# Altium schematic symbol library Telma_SimBox_T0_00.SCHLIB: 24 symbols
Pins are listed as number, name and electrical type; pins without a type are passive.

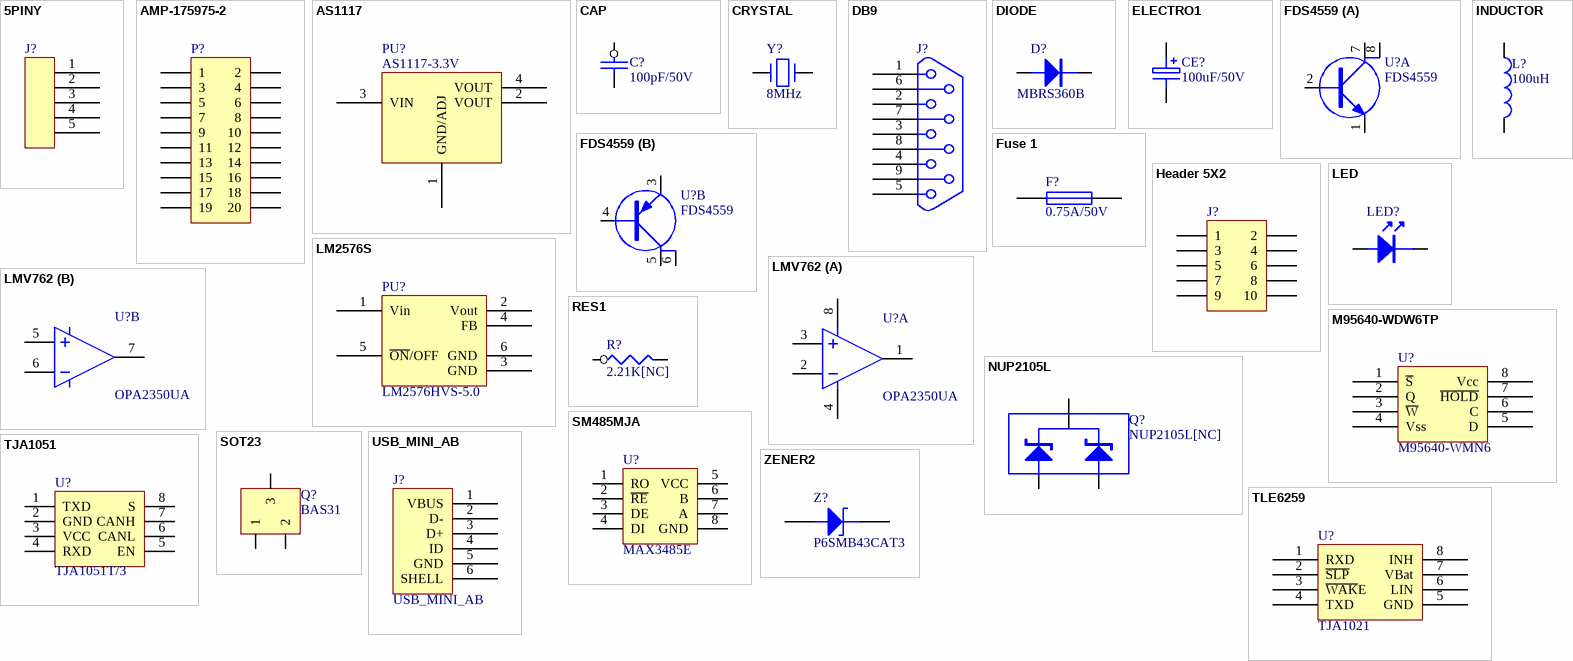
[diagram p0: symbols 5PINY to ZENER2]

## 5PINY
designator J?
footprint SIP5X
pins: 1, 2, 3, 4, 5

## AMP-175975-2
designator P?
Header, 10-Pin, Dual row; LatestRevisionDate: 17-Jul-2002; LatestRevisionNote: Re-released for DXP Platform.; Publisher: Altium Limited
footprint AMP-175975-2
pins: 1, 2, 3, 4, 5, 6, 7, 8, 9, 10, 11, 12, 13, 14, 15, 16, 17, 18, 19, 20

## AS1117
designator PU?, comment AS1117-3.3V
footprint SOT-223
pins: 1 GND/ADJ, 2 VOUT, 3 VIN, 4 VOUT

## CAP
designator C?, comment 100pF/50V
footprint 0805C
pins: 1, 2
2 alternate drawings of the same symbol

## CRYSTAL
designator Y?, comment 8MHz
footprint CRYSTAL
pins: 1, 2

## DB9
designator J?
footprint DB9
footprint DB9SLE (Footprint not found)
pins: 1, 2, 3, 4, 5, 6, 7, 8, 9

## DIODE
designator D?, comment MBRS360B
pins: A, K

## ELECTRO1
designator CE?, comment 100uF/50V
footprint SMD-EC-F8.0
pins: 1, 2

## FDS4559
designator U?
footprint SOP-8
part A pins: 1, 2, 7, 8
part B pins: 3, 4, 5, 6

## Fuse 1
designator F?, comment 0.75A/50V
Fuse; Published: 8-Jun-2000; LatestRevisionDate: 17-Jul-2002; LatestRevisionNote: Re-released for DXP Platform.; PackageReference: PIN-W2/E2.8; Publisher: Altium Limited; PackageDescription: Thru-Hole; 2 Leads
footprint 1206R
pins: 1, 2

## Header 5X2
designator J?
Header, 10-Pin, Dual row; LatestRevisionDate: 17-Jul-2002; LatestRevisionNote: Re-released for DXP Platform.; Publisher: Altium Limited
footprint HDR2X5 (Connector; Header; 8x2 Position)
pins: 1, 2, 3, 4, 5, 6, 7, 8, 9, 10

## INDUCTOR
designator L?, comment 100uH
footprint L10*10 (Footprint not found)
pins: 1, 2

## LED
designator LED?
footprint 1206LED (Footprint not found)
pins: A, K

## LM2576S
designator PU?, comment LM2576HVS-5.0
footprint P-TO263-5-1
pins: 1 Vin, 2 Vout, 3 GND, 4 FB, 5 ~{ON}/OFF, 6 GND

## LMV762
designator U?, comment OPA2350UA
footprint SOP-8
part A pins: 1, 2, 3, 4, 8
part B pins: 5, 6, 7

## M95640-WDW6TP
designator U?, comment M95640-WMN6
footprint SOP-8
pins: 1 ~{S}, 2 Q, 3 ~{W}, 4 Vss, 5 D, 6 C, 7 ~{HOLD}, 8 Vcc

## NUP2105L
designator Q?, comment NUP2105L[NC]
footprint SOT23
footprint SOT-23
pins: 1, 2, 3

## RES1
designator R?, comment 2.21K[NC]
footprint 0805R
pins: 1, 2
2 alternate drawings of the same symbol

## SM485MJA
designator U?, comment MAX3485E
footprint SM485MJA (DIP, 8-Leads, Row Spacing 7.62mm, Pitch 2.54mm, Body 9.91x6.73mm)
footprint SOP-8
pins: 1 RO, 2 ~{RE}, 3 DE, 4 DI, 5 VCC, 6 B, 7 A, 8 GND

## SOT23
designator Q?, comment BAS31
footprint SOT-23
pins: 1, 2, 3
2 alternate drawings of the same symbol

## TJA1051
designator U?, comment TJA1051T/3
footprint SO-8
footprint SOP-8
pins: 1 TXD, 2 GND, 3 VCC, 4 RXD, 5 EN, 6 CANL, 7 CANH, 8 S

## TLE6259
designator U?, comment TJA1021
footprint SOP-8
pins: 1 RXD, 2 ~{SLP}, 3 ~{WAK}E, 4 TXD, 5 GND, 6 LIN, 7 VBat, 8 INH

## USB_MINI_AB
designator J?
footprint USB_MINI
pins: 1 VBUS (power), 2 D-, 3 D+, 4 ID (power), 5 GND, 6 SHELL
2 alternate drawings of the same symbol

## ZENER2
designator Z?, comment P6SMB43CAT3
TVS
footprint D7227 (Footprint not found)
pins: A, K
2 alternate drawings of the same symbol